# EAGLE library part MCP2515 (library mcp2515-2551)
MCP2515 Stand-Alone CAN Controller with SPI Interface
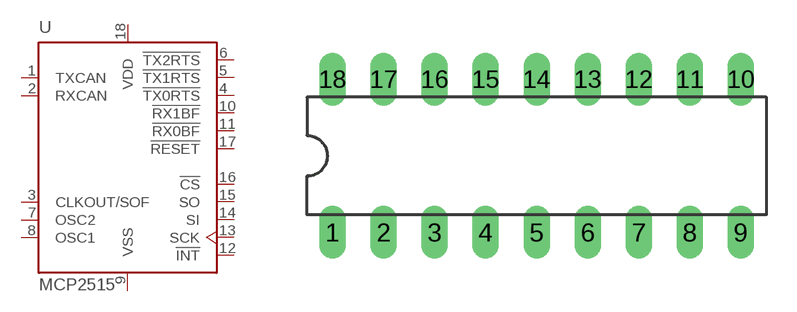
[diagram p1: symbol with the pads of DIL18; footprint DIL18]

Designator prefix U

## MCP2515  [DIL18]
1  TXCAN  out
2  RXCAN  in
3  CLKOUT/SOF  out
4  !TX0RTS  out
5  !TX1RTS  out
6  !TX2RTS  out
7  OSC2
8  OSC1
9  VSS  pwr
10  !RX1BF  out
11  !RX0BF  out
12  !INT  out
13  SCK  in
14  SI  in
15  SO  out
16  !CS  in
17  !RESET  in
18  VDD  pwr

## Footprint DIL18 (pad centres in mm)
Dual In Line Package
drill 0.813 long: 1 -10.16,-3.81; 2 -7.62,-3.81; 3 -5.08,-3.81; 4 -2.54,-3.81; 5 0,-3.81; 6 2.54,-3.81; 7 5.08,-3.81; 8 7.62,-3.81; 9 10.16,-3.81; 10 10.16,3.81; 11 7.62,3.81; 12 5.08,3.81; 13 2.54,3.81; 14 0,3.81; 15 -2.54,3.81; 16 -5.08,3.81; 17 -7.62,3.81; 18 -10.16,3.81